# Altium footprint library Library_pcb.PcbLib: 80 footprints (part 1 of 5)
Each footprint in its own frame and in the unit in brackets; x right, y up, seen from the top. Pads: shape width x height; smd on the part's side, far side on the other; paste and mask are expansions set on the pad; w line width, h text height; cw(c..) or ccw(c..) is an arc to the next point about the centre after c.
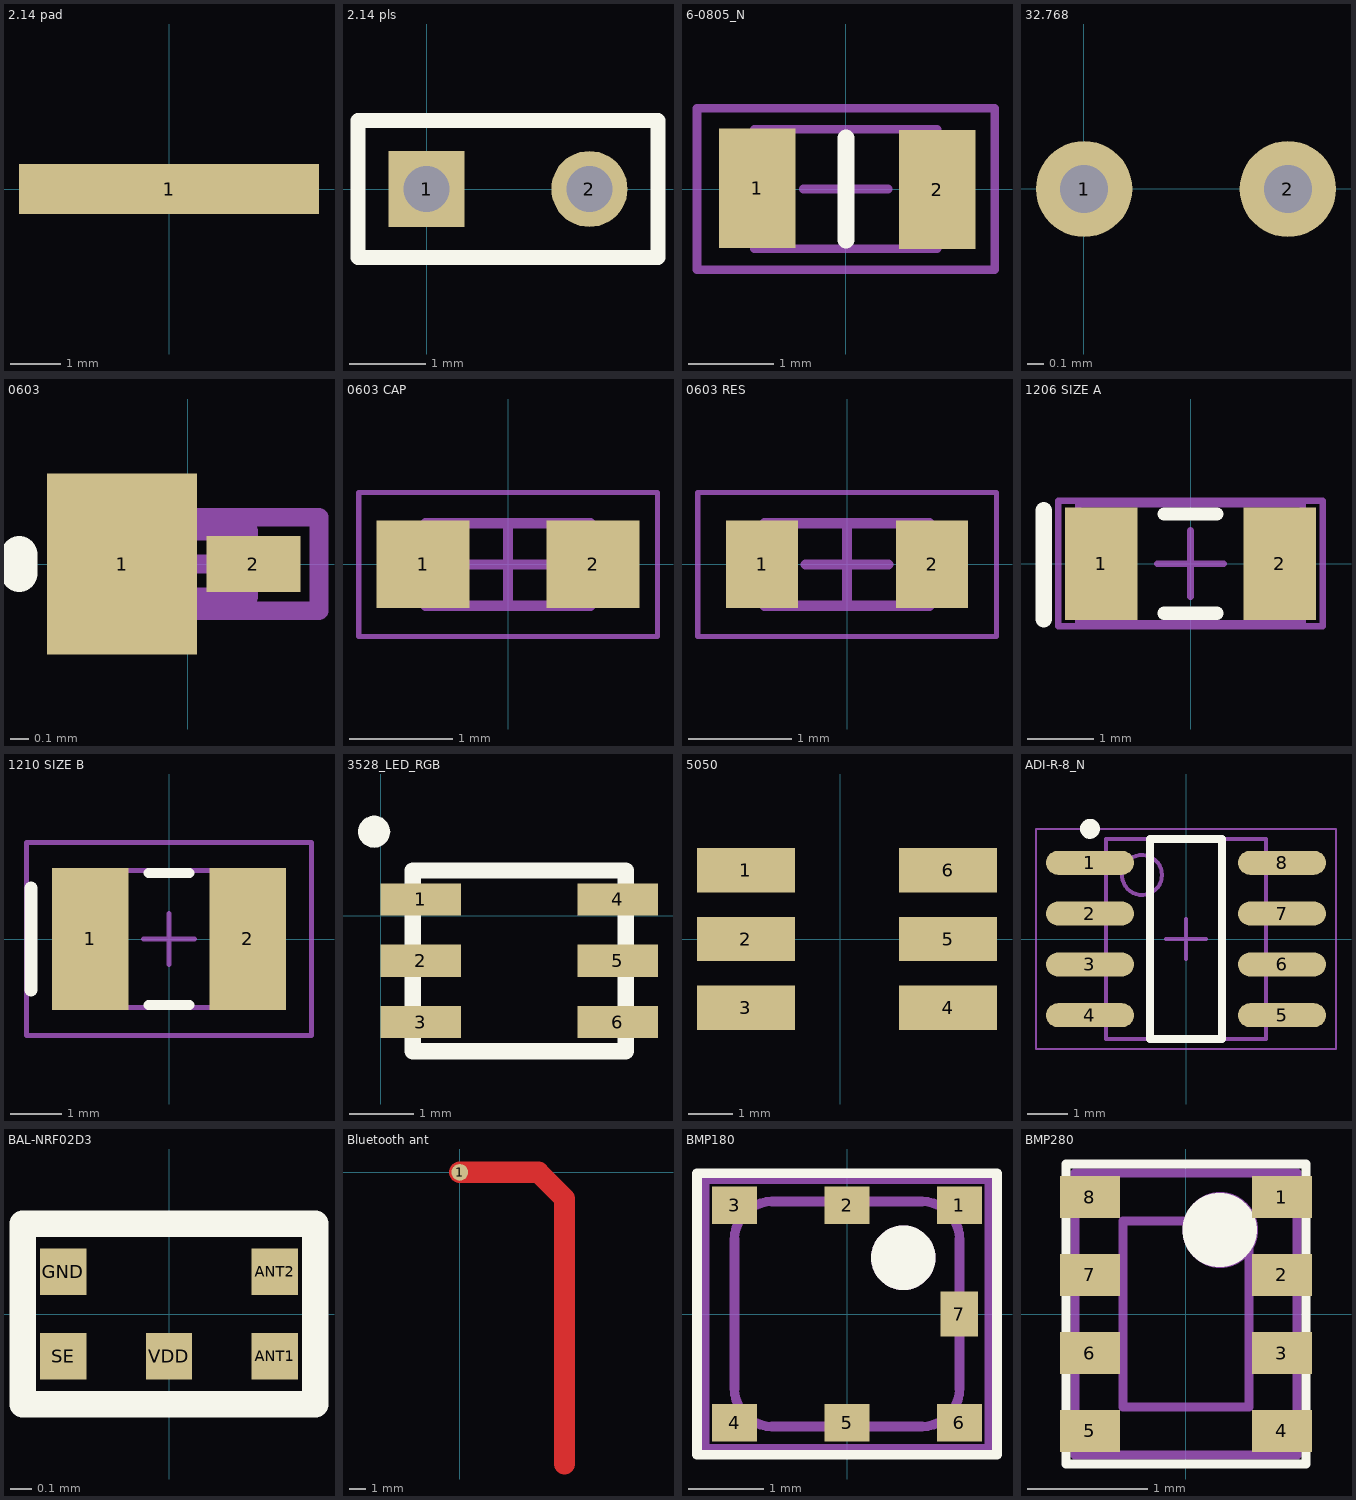
[diagram p0: the footprints below, top view; thin cyan lines are the x and y axes]

## 2.14 pad [mm] "Connector; Header; 2 Position"
pads (1):
  rect 6x1 smd: 1(0,0)

## 2.14 pls [mm] "Connector; Header; 2 Position"
pads (2):
  rect 1x1 hole 0.6: 1(0,0)
  round 1 hole 0.6: 2(2.14,0)
Top Overlay:
  lines w0.2: -0.9,-0.9 3.04,-0.9 3.04,0.9 -0.9,0.9 -0.9,-0.9

## 6-0805_N [mm] "Chip Resistor, Body 2.0x1.2mm, IPC Medium Density"
height 0.7
pads (2):
  rect 0.9x1.4 smd: 1(-1.039,0.009) 2(1.078,-0.007)
Top Overlay:
  lines w0.2: 0,-0.6 0,0.6
Mechanical 13:
  lines w0.1: -1.075,-0.7 1.075,-0.7 1.075,0.7 -1.075,0.7 -1.075,-0.7
Mechanical 15:
  lines w0.1: -0.5,0 0.5,0 ; 0,-0.5 0,0.5 ; -1.75,-0.95 1.75,-0.95 1.75,0.95 -1.75,0.95 -1.75,-0.95
3D body: height 0.7, standoff 0, extent -1.075,-0.7 1.075,0.7

## 32.768 [mm]
pads (2):
  round 0.6 hole 0.3: 1(0.001,-0.001) 2(1.271,-0.001)

## 0603 [mm] "Chip Inductor, Body 0.6x0.3mm, IPC High Density"
height 0.55
pads (2):
  rect 0.8x0.965 smd: 1(-0.35,0)
  rect 0.5x0.3 smd: 2(0.35,0)
Top Overlay:
  lines w0.2: -0.9,-0.05 -0.9,0.05
Mechanical 13:
  lines w0.1: -0.325,-0.175 -0.325,0.175 0.325,0.175 0.325,-0.175 -0.325,-0.175
Mechanical 15:
  lines w0.1: -0.175,0 0.175,0 ; 0,-0.175 0,0.175 ; -0.7,-0.25 -0.7,0.25 0.7,0.25 0.7,-0.25 -0.7,-0.25
3D body: height 0.55, standoff 0, extent -0.325,-0.175 0.325,0.175

## 0603 CAP [mm] "Chip Resistor, 2-Leads, Body 1,60x0,80mm, IPC Medium Density"
height 0.6
pads (2):
  rect 0.9x0.85 smd: 1(-0.825,0) 2(0.825,0)
Top Solder:
  pour cut-out: -1.457,0.709 1.456,0.709 1.456,-0.699 -1.451,-0.699 -1.457,-0.693
Mechanical 13:
  lines w0.1: -0.8,-0.4 0.8,-0.4 0.8,0.4 -0.8,0.4 -0.8,-0.4
Mechanical 15:
  lines w0.05: -1.45,-0.7 1.45,-0.7 1.45,0.7 -1.45,0.7 -1.45,-0.7
  lines w0.1: -0.4,0 0.4,0 ; 0,-0.4 0,0.4
3D body: height 0.6, standoff 0, extent 0.5,-0.4 0.8,0.4
3D body: height 0.6, standoff 0, extent -0.8,-0.4 -0.5,0.4
3D body: height 0.6, standoff 0, extent -0.5,-0.4 0.5,0.4

## 0603 RES [mm] "Chip Resistor, 2-Leads, Body 1,60x0,80mm, IPC Medium Density"
height 0.6
pads (2):
  rect 0.7x0.85 smd: 1(-0.825,0) 2(0.825,0)
Top Solder:
  pour cut-out: -1.457,0.709 1.456,0.709 1.456,-0.699 -1.451,-0.699 -1.457,-0.693
Mechanical 13:
  lines w0.1: -0.8,-0.4 -0.8,0.4 0.8,0.4 0.8,-0.4 -0.8,-0.4
Mechanical 15:
  lines w0.05: -1.45,-0.7 -1.45,0.7 1.45,0.7 1.45,-0.7 -1.45,-0.7
  lines w0.1: -0.4,0 0.4,0 ; 0,-0.4 0,0.4
3D body: height 0.6, standoff 0, extent -0.5,-0.4 0.5,0.4
3D body: height 0.6, standoff 0, extent -0.8,-0.4 -0.5,0.4
3D body: height 0.6, standoff 0, extent 0.5,-0.4 0.8,0.4

## 1206 SIZE A [mm] "Chip Capacitor, Body 3.2x1.6mm, IPC High Density"
height 1.3
pads (2):
  rect 1.1x1.7 smd: 1(-1.35,0) 2(1.35,0)
Top Overlay:
  lines w0.2: -0.4,-0.75 0.4,-0.75 ; -0.4,0.75 0.4,0.75
  lines w0.254: -2.221,-0.841 -2.221,0.807
Top Solder:
  pour cut-out: -2.337,0.996 2.017,0.996 2.017,-0.988 1.997,-1.008 -2.337,-1.008
Mechanical 13:
  lines w0.1: -1.7,-0.9 -1.7,0.9 1.7,0.9 1.7,-0.9 -1.7,-0.9
Mechanical 15:
  lines w0.1: -0.5,0 0.5,0 ; 0,-0.5 0,0.5 ; -2,-0.95 -2,0.95 2,0.95 2,-0.95 -2,-0.95
3D body: height 1.3, standoff 0, extent -1.7,-0.9 1.7,0.9

## 1210 SIZE B [mm] "Chip Capacitor, Body 3.2x2.5mm, IPC Low Density"
height 1.5
pads (2):
  rect 1.5x2.8 smd: 1(-1.55,0) 2(1.55,0)
Top Overlay:
  lines w0.2: -0.4,-1.3 0.4,-1.3 ; -0.4,1.3 0.4,1.3
  lines w0.254: -2.712,-1 -2.712,1
Top Solder:
  pour cut-out: -2.777,1.836 2.761,1.836 2.761,-1.842 -2.777,-1.842
Mechanical 13:
  lines w0.1: -1.7,-1.35 1.7,-1.35 1.7,1.35 -1.7,1.35 -1.7,-1.35
Mechanical 15:
  lines w0.1: -0.5,0 0.5,0 ; 0,-0.5 0,0.5 ; -2.8,-1.9 2.8,-1.9 2.8,1.9 -2.8,1.9 -2.8,-1.9
3D body: height 1.5, standoff 0, extent -1.7,-1.35 1.7,1.35

## 3528_LED_RGB [mm]
pads (7):
  rect 1.25x0.5 smd: 1(0.625,0.25) 2(0.625,-0.7) 3(0.625,-1.65) 4(3.675,0.25) 5(3.675,-0.7) 6(3.675,-1.65)
  round 0.5 on Top Overlay: ""(-0.1,1.3)
Top Overlay:
  lines w0.254: 0.5,-2.1 0.5,0.7 3.8,0.7 3.8,-2.1 0.5,-2.1

## 5050 [mm] "SMD RGB LED"
pads (6):
  rect 2.2x1 smd: 1(-2.125,1.55) 2(-2.125,0) 3(-2.125,-1.55) 4(2.425,-1.55) 5(2.425,0) 6(2.425,1.55)
3D body "User Library-smd_led_5050.STEP": height 1.6, standoff 0, extent -2.5,-2.5 2.8,2.5

## ADI-R-8_N [mm] "SOIC, 8-Leads, Body 4.9x3.9mm, Pitch 1.27mm, IPC Medium Density"
height 1.75
pads (8):
  oval 2.2x0.6 smd: 1(-2.4,1.905) 2(-2.4,0.635) 3(-2.4,-0.635) 4(-2.4,-1.905) 5(2.4,-1.905) 6(2.4,-0.635) 7(2.4,0.635) 8(2.4,1.905)
Top Overlay:
  circle w0.25: c-2.4,2.755 r0.125
  lines w0.2: -0.9,-2.5 0.9,-2.5 0.9,2.5 -0.9,2.5 -0.9,-2.5
Mechanical 13:
  circle w0.1: c-1.1,1.6 r0.5
  lines w0.1: -2,-2.5 2,-2.5 2,2.5 -2,2.5 -2,-2.5
Mechanical 15:
  lines w0.05: -3.75,-2.75 3.75,-2.75 3.75,2.75 -3.75,2.75 -3.75,-2.75
  lines w0.1: -0.5,0 0.5,0 ; 0,-0.5 0,0.5
3D body: height 1.75, standoff 0.1, extent -2,-2.5 2,2.5

## BAL-NRF02D3 [mm]
pads (5):
  rect 0.22x0.22 smd paste-25.4 mask-25.4: ANT1(0.5,-0.2) ANT2(0.5,0.2) GND(-0.5,0.2) SE(-0.5,-0.2) VDD(0,-0.2)
Top Overlay:
  lines w0.127: -0.693,-0.427 0.693,-0.427 0.693,0.427 -0.693,0.427 -0.693,-0.427
Top Paste:
  region: -0.61,0.09 -0.39,0.09 -0.39,0.31 -0.61,0.31
  region: -0.11,-0.31 0.11,-0.31 0.11,-0.09 -0.11,-0.09
  region: 0.39,0.09 0.61,0.09 0.61,0.31 0.39,0.31
  region: -0.61,-0.31 -0.39,-0.31 -0.39,-0.09 -0.61,-0.09
  region: 0.39,-0.31 0.61,-0.31 0.61,-0.09 0.39,-0.09
Top Solder:
  region: -0.71,-0.01 -0.29,-0.01 -0.29,0.41 -0.71,0.41
  region: -0.21,-0.41 0.21,-0.41 0.21,0.01 -0.21,0.01
  region: 0.29,-0.01 0.71,-0.01 0.71,0.41 0.29,0.41
  region: -0.71,-0.41 -0.29,-0.41 -0.29,0.01 -0.71,0.01
  region: 0.29,-0.41 0.71,-0.41 0.71,0.01 0.29,0.01

## Bluetooth ant [mm]
pads (1):
  round 1 smd: 1(0,0)
Top Layer:
  lines w1.27: 0,0 4.689,0 6.248,-1.559 6.248,-17.401

## BMP180 [mm]
pads (7):
  rect 0.6x0.5 smd paste-25.4 mask-25.4: 1(1.5,1.45) 2(0,1.45) 3(-1.5,1.45) 4(-1.5,-1.45) 5(0,-1.45) 6(1.5,-1.45)
  rect 0.5x0.6 smd paste-25.4 mask-25.4: 7(1.5,0)
Top Overlay:
  circle w0.61: c0.75,0.75 r0.125
  circle w0.61: c0.75,0.75 r0.125
  lines w0.127: -2,-1.875 -2,1.875 2,1.875 2,-1.875 -2,-1.875
Top Paste:
  region: 1.8,1.2 1.8,1.7 1.2,1.7 1.2,1.2
  region: 0.3,1.2 0.3,1.7 -0.3,1.7 -0.3,1.2
  region: -1.2,1.2 -1.2,1.7 -1.8,1.7 -1.8,1.2
  region: -1.2,-1.7 -1.2,-1.2 -1.8,-1.2 -1.8,-1.7
  region: 0.3,-1.7 0.3,-1.2 -0.3,-1.2 -0.3,-1.7
  region: 1.8,-1.7 1.8,-1.2 1.2,-1.2 1.2,-1.7
  region: 1.75,0.3 1.25,0.3 1.25,-0.3 1.75,-0.3
Top Solder:
  region: 1.9,1.1 1.9,1.8 1.1,1.8 1.1,1.1
  region: 0.4,1.1 0.4,1.8 -0.4,1.8 -0.4,1.1
  region: -1.1,1.1 -1.1,1.8 -1.9,1.8 -1.9,1.1
  region: -1.1,-1.8 -1.1,-1.1 -1.9,-1.1 -1.9,-1.8
  region: 0.4,-1.8 0.4,-1.1 -0.4,-1.1 -0.4,-1.8
  region: 1.9,-1.8 1.9,-1.1 1.1,-1.1 1.1,-1.8
  region: 1.85,0.4 1.15,0.4 1.15,-0.4 1.85,-0.4
Mechanical 1:
  circle w0.61: c0.75,0.75 r0.125
  lines w0.127: -1.9,-1.8 -1.9,1.8 1.9,1.8 1.9,-1.8 -1.9,-1.8 ; -1.5,-1 ccw(c-1,-1) -1,-1.5 1,-1.5 ccw(c1,-1) 1.5,-1 1.5,1 ccw(c1,1) 1,1.5 -1,1.5 ccw(c-1,1) -1.5,1 -1.5,-1

## BMP280 [mm]
pads (8):
  rect 0.5x0.35 smd paste-25.4 mask-25.4: 1(0.8,0.975) 2(0.8,0.325) 3(0.8,-0.325) 4(0.8,-0.975) 5(-0.8,-0.975) 6(-0.8,-0.325) 7(-0.8,0.325) 8(-0.8,0.975)
Top Overlay:
  circle w0.61: c0.28,0.7 r0.005
  circle w0.61: c0.279,0.7 r0.001
  lines w0.075: -1,-1.25 -1,1.25 1,1.25 1,-1.25 -1,-1.25
Top Paste:
  region: 1.05,1.15 0.55,1.15 0.55,0.8 1.05,0.8
  region: 1.05,0.5 0.55,0.5 0.55,0.15 1.05,0.15
  region: 1.05,-0.15 0.55,-0.15 0.55,-0.5 1.05,-0.5
  region: 1.05,-0.8 0.55,-0.8 0.55,-1.15 1.05,-1.15
  region: -0.55,0.5 -1.05,0.5 -1.05,0.15 -0.55,0.15
  region: -0.55,-0.15 -1.05,-0.15 -1.05,-0.5 -0.55,-0.5
  region: -0.55,-0.8 -1.05,-0.8 -1.05,-1.15 -0.55,-1.15
  region: -0.55,1.15 -1.05,1.15 -1.05,0.8 -0.55,0.8
Top Solder:
  region: 0.5,1.2 0.5,0.761 1.1,0.761 1.1,1.2
  region: 0.5,0.55 0.5,0.111 1.1,0.111 1.1,0.55
  region: 0.5,-0.1 0.5,-0.539 1.1,-0.539 1.1,-0.1
  region: 0.5,-0.75 0.5,-1.189 1.1,-1.189 1.1,-0.75
  region: -1.1,0.55 -1.1,0.111 -0.5,0.111 -0.5,0.55
  region: -1.1,-0.1 -1.1,-0.539 -0.5,-0.539 -0.5,-0.1
  region: -1.1,-0.75 -1.1,-1.189 -0.5,-1.189 -0.5,-0.75
  region: -1.1,1.2 -1.1,0.761 -0.5,0.761 -0.5,1.2
Mechanical 1:
  circle w0.61: c0.285,0.7 r0.01
  lines w0.075: -0.925,-1.175 -0.925,1.175 0.925,1.175 0.925,-1.175 -0.925,-1.175 ; -0.525,-0.775 -0.525,0.775 0.525,0.775 0.525,-0.775 -0.525,-0.775
3D body "BMP280.step": height 1, standoff 0, extent -1,-1.25 1,1.25